# EAGLE library part TPA0233 (library NewSDR)
Texas Instruments TPA0233 Dual Function Audio Amplifier
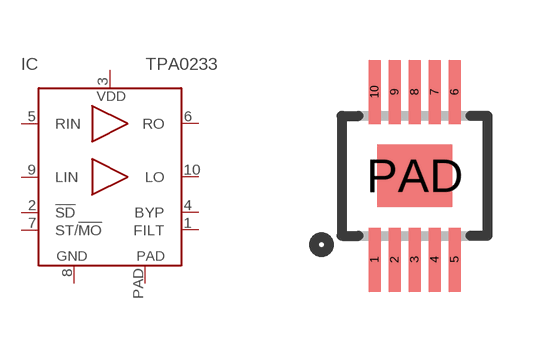
[diagram p188: symbol with the pads of DGQ; footprint DGQ]

Designator prefix IC

## TPA0233MSOP-10_EP  [DGQ]
1  FILT  pas
2  !SD  in
3  VDD  pwr
4  BYP  pas
5  RIN  in
6  RO  out
7  ST/!MO  in
8  GND  pwr
9  LIN  in
10  LO  out
PAD  PAD  pwr

## Footprint DGQ (pad centres in mm)
Texas Instruments DGQ Package
smd 0.3 x 1.6: 1 -1,-2.1; 2 -0.5,-2.1; 3 0,-2.1; 4 0.5,-2.1; 5 1,-2.1; 6 1,2.1; 7 0.5,2.1; 8 0,2.1; 9 -0.5,2.1; 10 -1,2.1
smd 1.88 x 1.57: PAD 0,0